# EAGLE library part LM2596S (library national-semi)
SIMPLE SWITCHER 150 kHz, 3A Step-Down Voltage Regulator
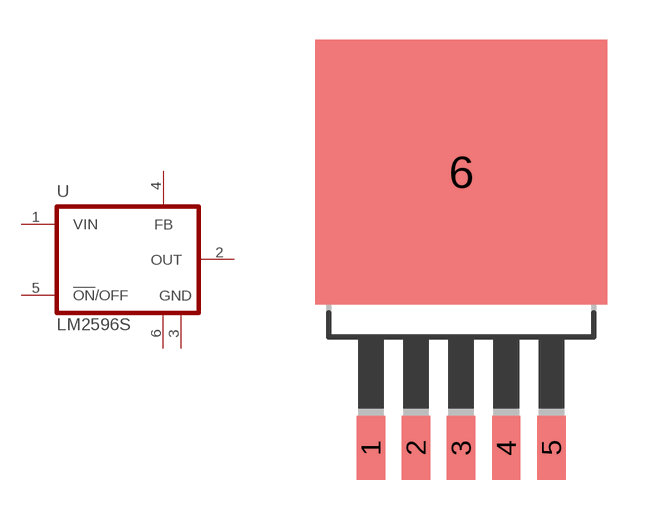
[diagram p12: symbol with the pads of TO263-5; footprint TO263-5]

Designator prefix U

## LM2596S  [TO263-5]
1  VIN  in
2  OUT  out
3  GND  in
4  FB  in
5  !ON!/OFF  in
6  GND  in

## Footprint TO263-5 (pad centres in mm)
TO-263
smd 1.067 x 2.413: 1 -3.404,-8.791; 2 -1.702,-8.791; 3 0,-8.791; 4 1.702,-8.791; 5 3.404,-8.791
smd 11 x 10: 6 0,1.61